# EAGLE library part ADS7953SBDBT (library scono)
16 Channel ADC by TI. 12 Bit accuracy. Serial (SPI) w/ clock communication.
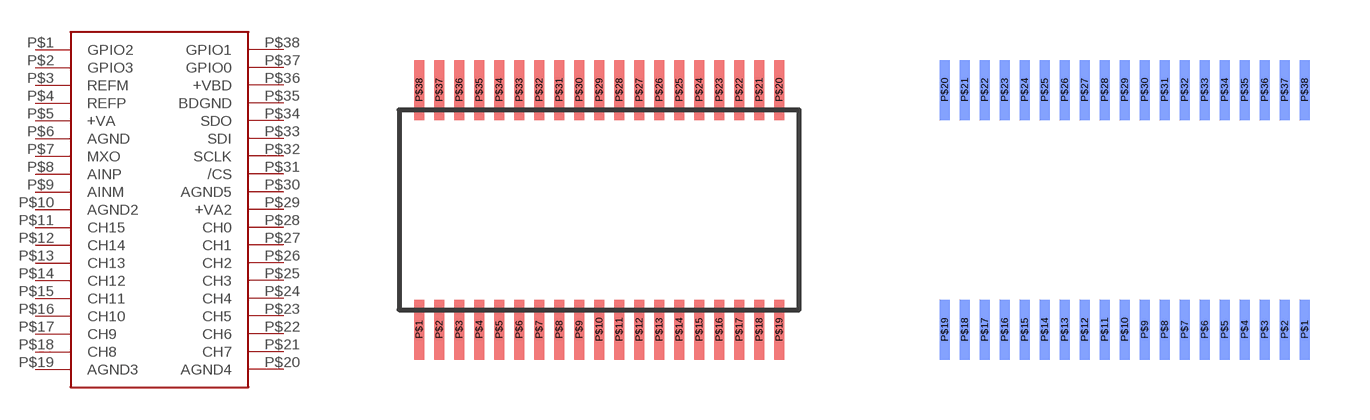
[diagram p2: symbol with the pads of ADS7953SBDBT; footprints ADS7953SBDBT, ADS7953BDBT-BOT]

Designator prefix -

## ADS7953SBDBT  [ADS7953SBDBT]
P$1  GPIO2
P$2  GPIO3
P$3  REFM
P$4  REFP
P$5  +VA
P$6  AGND
P$7  MXO
P$8  AINP
P$9  AINM
P$10  AGND2
P$11  CH15
P$12  CH14
P$13  CH13
P$14  CH12
P$15  CH11
P$16  CH10
P$17  CH9
P$18  CH8
P$19  AGND3
P$20  AGND4
P$21  CH7
P$22  CH6
P$23  CH5
P$24  CH4
P$25  CH3
P$26  CH2
P$27  CH1
P$28  CH0
P$29  +VA2
P$30  AGND5
P$31  /CS
P$32  SCLK
P$33  SDI
P$34  SDO
P$35  BDGND
P$36  +VBD
P$37  GPIO0
P$38  GPIO1

## ADS7953SBDBTBOTTOM  [ADS7953BDBT-BOT]
Pads as for ADS7953SBDBT

## Footprint ADS7953SBDBT (pad centres in mm)
smd 0.25 x 1.5: P$1 0,0; P$2 0.5,0; P$3 1,0; P$4 1.5,0; P$5 2,0; P$6 2.5,0; P$7 3,0; P$8 3.5,0; P$9 4,0; P$10 4.5,0; P$11 5,0; P$12 5.5,0; P$13 6,0; P$14 6.5,0; P$15 7,0; P$16 7.5,0; P$17 8,0; P$18 8.5,0; P$19 9,0; P$20 9,6; P$21 8.5,6; P$22 8,6; P$23 7.5,6; P$24 7,6; P$25 6.5,6; P$26 6,6; P$27 5.5,6; P$28 5,6; P$29 4.5,6; P$30 4,6; P$31 3.5,6; P$32 3,6; P$33 2.5,6; P$34 2,6; P$35 1.5,6; P$36 1,6; P$37 0.5,6; P$38 0,6

## Footprint ADS7953BDBT-BOT (pad centres in mm)
smd 0.25 x 1.5 bottom: P$1 0,0; P$2 -0.5,0; P$3 -1,0; P$4 -1.5,0; P$5 -2,0; P$6 -2.5,0; P$7 -3,0; P$8 -3.5,0; P$9 -4,0; P$10 -4.5,0; P$11 -5,0; P$12 -5.5,0; P$13 -6,0; P$14 -6.5,0; P$15 -7,0; P$16 -7.5,0; P$17 -8,0; P$18 -8.5,0; P$19 -9,0; P$20 -9,6; P$21 -8.5,6; P$22 -8,6; P$23 -7.5,6; P$24 -7,6; P$25 -6.5,6; P$26 -6,6; P$27 -5.5,6; P$28 -5,6; P$29 -4.5,6; P$30 -4,6; P$31 -3.5,6; P$32 -3,6; P$33 -2.5,6; P$34 -2,6; P$35 -1.5,6; P$36 -1,6; P$37 -0.5,6; P$38 0,6